# EAGLE library part MAX964ESET (library MAX964ESET)
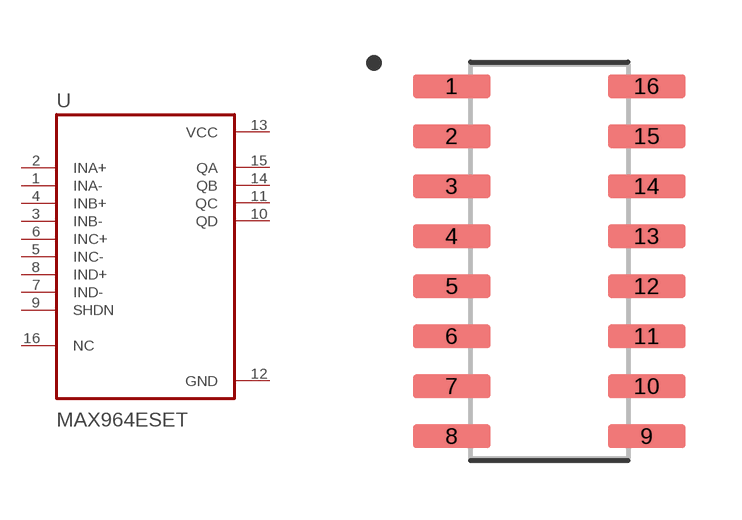
[diagram p0: symbol with the pads of SOIC127P600X175-16N; footprint SOIC127P600X175-16N]

Designator prefix U

## MAX964ESET (Availability: Unavailable; Description: Linear IC - Comparator Maxim Integrated MAX964ESE+ Multi-purpose CMOS, TTL SOIC 16; MF: Maxim Integrated; MP: MAX964ESE+; Package: SOIC-16 Maxim; Price: None)  [SOIC127P600X175-16N]
1  INA-  in
2  INA+  in
3  INB-  in
4  INB+  in
5  INC-  in
6  INC+  in
7  IND-  in
8  IND+  in
9  SHDN  in
10  QD  out
11  QC  out
12  GND  pwr
13  VCC  pwr
14  QB  out
15  QA  out
16  NC

## Footprint SOIC127P600X175-16N (pad centres in mm)
smd 1.97 x 0.59: 1 -2.475,4.445; 2 -2.475,3.175; 3 -2.475,1.905; 4 -2.475,0.635; 5 -2.475,-0.635; 6 -2.475,-1.905; 7 -2.475,-3.175; 8 -2.475,-4.445; 9 2.475,-4.445; 10 2.475,-3.175; 11 2.475,-1.905; 12 2.475,-0.635; 13 2.475,0.635; 14 2.475,1.905; 15 2.475,3.175; 16 2.475,4.445